# Altium schematic symbol library CC26XXMOD.SchLib: 2 symbols
Pins are listed as number, name and electrical type; pins without a type are passive.

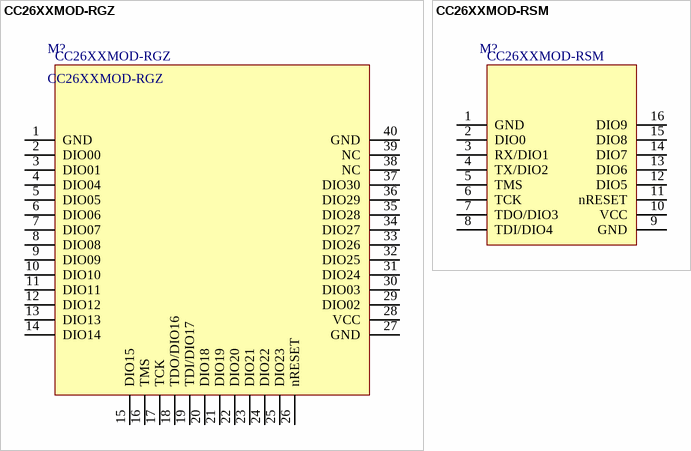
[diagram p0: symbols CC26XXMOD-RGZ to CC26XXMOD-RSM]

## CC26XXMOD-RGZ
designator M?
Ghostyu CC26XX  Module; Part Number: CC26XXMOD-RGZ; Manufacturer: Ghostyu; Part Value: CC26XXMOD-RGZ
footprint CC26XXMOD-RGZ (Footprint not found)
pins: 1 GND, 2 DIO00, 3 DIO01, 4 DIO04, 5 DIO05, 6 DIO06, 7 DIO07, 8 DIO08, 9 DIO09, 10 DIO10, 11 DIO11, 12 DIO12, 13 DIO13, 14 DIO14, 15 DIO15, 16 TMS, 17 TCK, 18 TDO/DIO16, 19 TDI/DIO17, 20 DIO18, 21 DIO19, 22 DIO20, 23 DIO21, 24 DIO22, 25 DIO23, 26 nRESET, 27 GND, 28 VCC, 29 DIO02, 30 DIO03, 31 DIO24, 32 DIO25, 33 DIO26, 34 DIO27, 35 DIO28, 36 DIO29, 37 DIO30, 38 NC, 39 NC, 40 GND

## CC26XXMOD-RSM
designator M?  Part Value: CC26XXMOD-RSM  (hidden comment: *)
CC26xx Module; Manufacturer: Ghostyu; Part Number: CC26XXMOD-RSM
footprint CC26XXMOD-RSM
pins: 1 GND, 2 DIO0, 3 RX/DIO1, 4 TX/DIO2, 5 TMS, 6 TCK, 7 TDO/DIO3, 8 TDI/DIO4, 9 GND, 10 VCC, 11 nRESET, 12 DIO5, 13 DIO6, 14 DIO7, 15 DIO8, 16 DIO9